# Altium footprint library 水下机器人电调控制板2020.PcbLib: 54 footprints (part 4 of 4)
Each footprint in its own frame and in the unit in brackets; x right, y up, seen from the top. Pads: shape width x height; smd on the part's side, far side on the other; paste and mask are expansions set on the pad; w line width, h text height; cw(c..) or ccw(c..) is an arc to the next point about the centre after c.
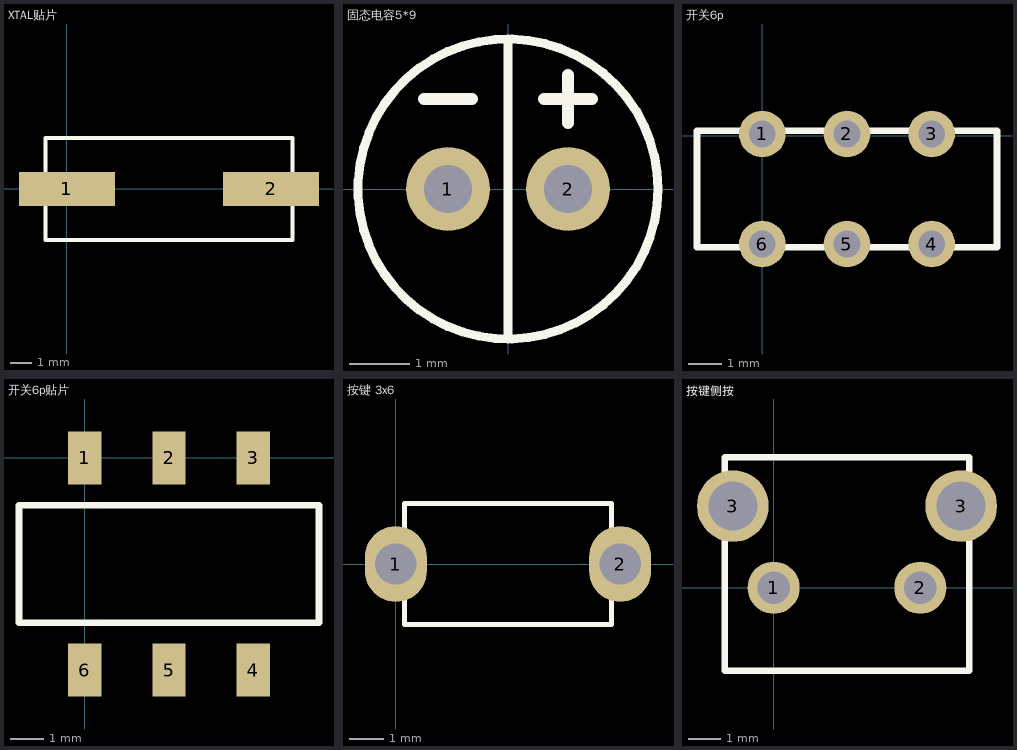
[diagram p3: the footprints below, top view; thin cyan lines are the x and y axes]

## XTAL贴片 [mm]
pads (2):
  rect 4.5x1.6 smd: 1(0,0) 2(9.59,0)
Top Overlay:
  lines w0.2: -1.005,-2.4 10.595,-2.4 10.595,2.4 -1.005,2.4 -1.005,-2.4

## 固态电容5*9 [mm]
pads (2):
  round 1.4 hole 0.8 mask+0.1: 1(-1,0) 2(1,0)
Top Overlay:
  circle w0.15: c0,0 r2.5
  lines w0.15: 0,-2.5 0,2.5
  lines w0.2: -1.4,1.5 -0.6,1.5 ; 0.6,1.5 1.4,1.5 ; 1,1.1 1,1.9

## 开关6p [mm]
pads (6):
  round 1.4 hole 0.8: 1(0,0.05) 2(2.54,0.05) 3(5.08,0.05) 4(5.08,-3.25) 5(2.54,-3.25) 6(0,-3.25)
Top Overlay:
  lines w0.2: -1.96,-3.35 7.04,-3.35 7.04,0.15 -1.96,0.15 -1.96,-3.35

## 开关6p贴片 [mm]
pads (6):
  rect 1x1.6 smd: 1(0,0) 2(2.54,0) 3(5.08,0) 4(5.08,-6.4) 5(2.54,-6.4) 6(0,-6.4)
Top Overlay:
  lines w0.2: -1.985,-4.975 -1.985,-1.425 7.065,-1.425 7.065,-4.975 -1.985,-4.975

## 按键 3x6 [mm]
pads (2):
  oval 1.8x2.2 hole 1.2: 1(0,0) 2(6.5,0)
Top Overlay:
  lines w0.15: 0.25,-1.75 6.25,-1.75 6.25,1.75 0.25,1.75 0.25,-1.75

## 按键侧按 [mm]
pads (4):
  round 1.6 hole 1: 1(0,0) 2(4.5,0)
  round 2.2 hole 1.5: 3(-1.25,2.5) 3(5.75,2.5)
Top Overlay:
  lines w0.2: -1.5,-2.55 6,-2.55 6,4 -1.5,4 -1.5,-2.55